# Altium schematic symbol library PCM12SMTBR.SchLib: 1 symbol
Pins are listed as number, name and electrical type; pins without a type are passive.

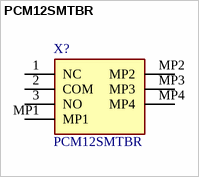
[diagram p0: symbol PCM12SMTBR]

## PCM12SMTBR
designator X?
Slide Switch SPDT Surface Mount, Right Angle; Manufacturer_Name: C & K COMPONENTS; Geometry.Height: 1.4mm; Mouser Part Number: 611-PCM12SMTBR; Mouser Price/Stock: https://www.mouser.co.uk/ProductDetail/CK/PCM12SMTBR?qs=By6Nw2ByBD1OEOnWcdZb2g%3D%3D; Manufacturer_Part_Number: PCM12SMTBR; Datasheet Link: https://www.ckswitches.com/media/1424/pcm.pdf
footprint PCM12SMTBR
pins: 1 NC, 2 COM, 3 NO, MP1, MP2, MP3, MP4